# Altium footprint library Ctrl_FOC1.PcbLib: 35 footprints (part 2 of 3)
Each footprint in its own frame and in the unit in brackets; x right, y up, seen from the top. Pads: shape width x height; smd on the part's side, far side on the other; paste and mask are expansions set on the pad; w line width, h text height; cw(c..) or ccw(c..) is an arc to the next point about the centre after c.
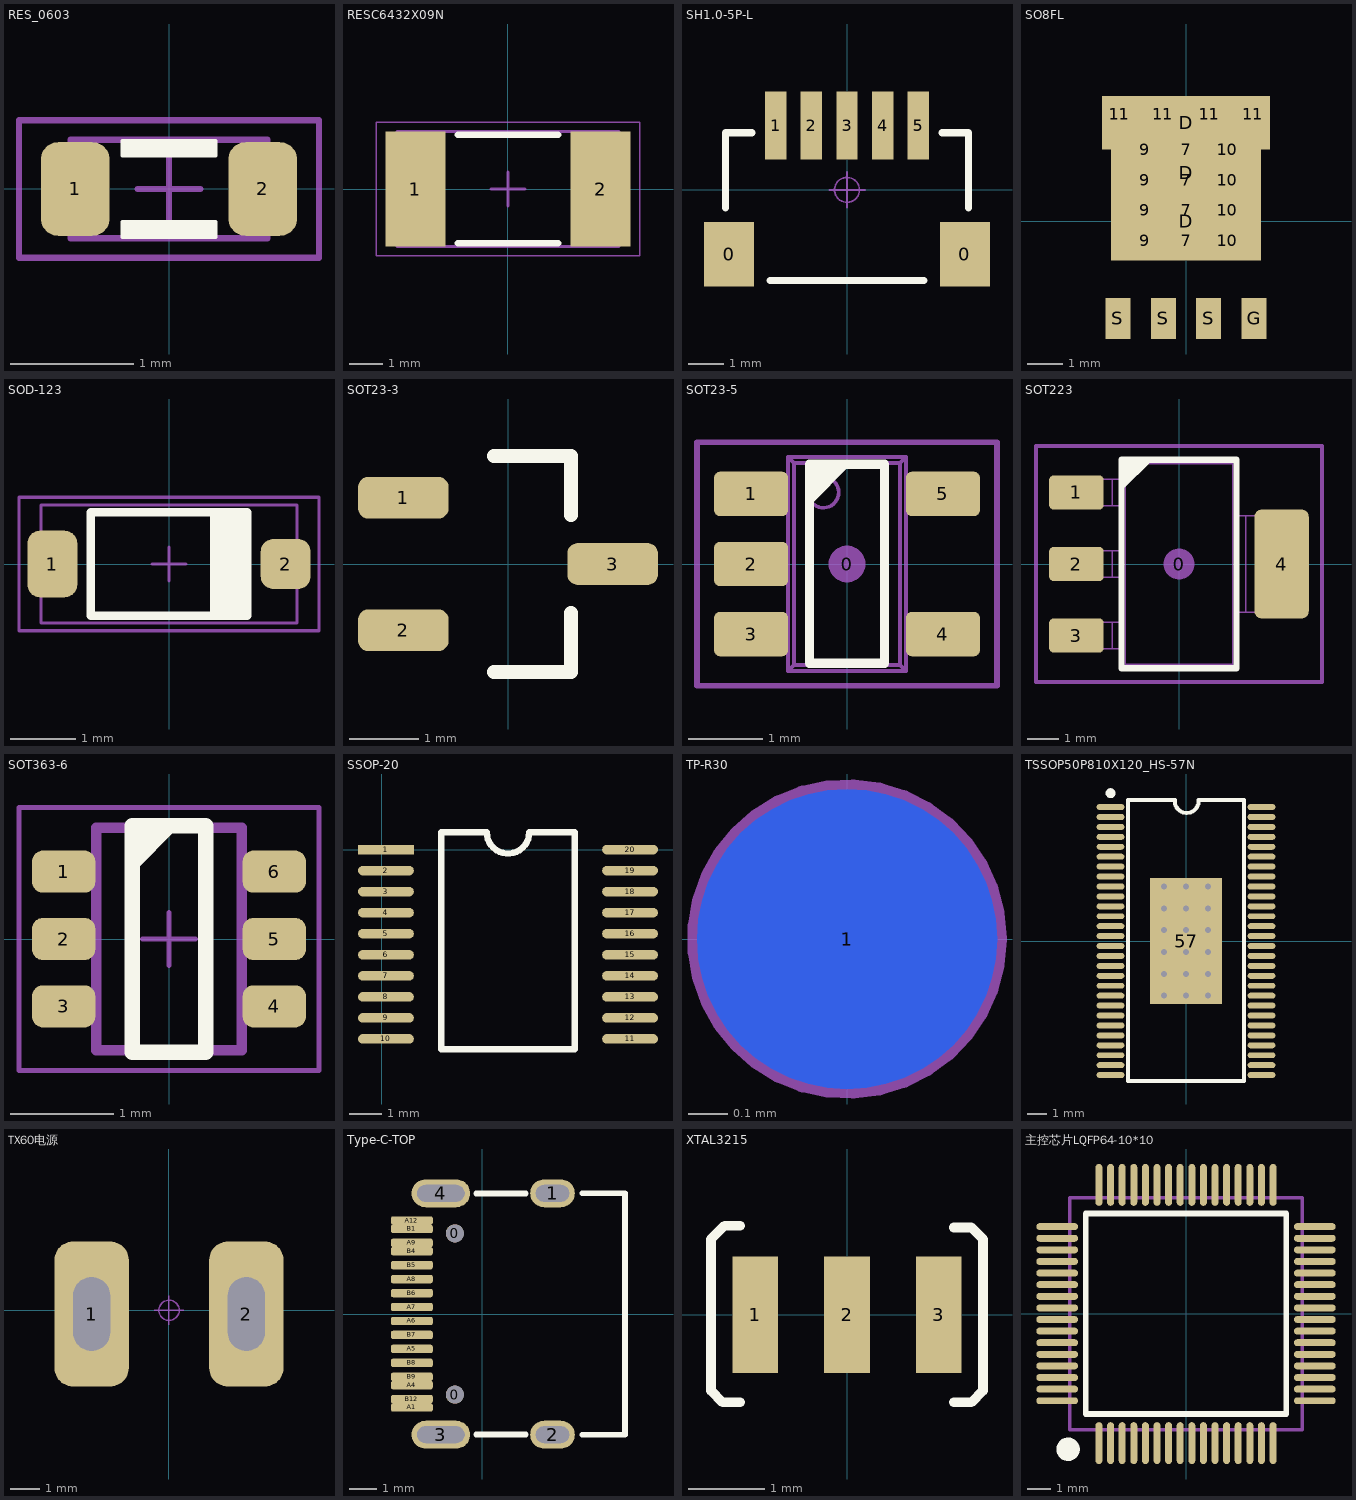
[diagram p1: the footprints below, top view; thin cyan lines are the x and y axes]

## RES_0603 [mil]
height 31.5
pads (2):
  rrect50% 22x30 smd: 1(-30,0) 2(30,0)
Top Overlay:
  region: -14.74,15.42 -14.74,10.42 15.26,10.42 15.26,15.42
  region: 15,-15.5 15,-10.5 -15,-10.5 -15,-15.5
  lines w1: -15,-15.5 -15,-10.5 15,-10.5 15,-15.5 -15,-15.5 ; -15,10.5 15,10.5 15,15.5 -15,15.5 -15,10.5
Mechanical 13:
  lines w2: -10,0 10,0 ; 0,-10 0,10 ; -31.5,-15.75 -31.5,15.75 31.5,15.75 31.5,-15.75 -31.5,-15.75
Mechanical 14:
  lines w2: -48,-22 -48,22 48,22 48,-22 -48,-22
3D body "RES0603.STEP": height 17.72, standoff 0, extent -31.49,-16.13 31.5,16.15

## RESC6432X09N [mm] "Chip Resistor, 2-Leads, Body 6.40x3.20mm, IPC Medium Density"
height 0.9
pads (2):
  rect 1.8x3.45 smd: 1(-2.775,0) 2(2.775,0)
Top Overlay:
  lines w0.2: -1.5,-1.625 1.5,-1.625 ; -1.5,1.625 1.5,1.625
Mechanical 13:
  lines w0.1: -3.325,-1.725 3.325,-1.725 3.325,1.725 -3.325,1.725 -3.325,-1.725
Mechanical 15:
  lines w0.05: -3.95,-2 -3.95,2 3.95,2 3.95,-2 -3.95,-2
  lines w0.1: -0.5,0 0.5,0 ; 0,-0.5 0,0.5
3D body: height 0.9, standoff 0, extent 2.425,-1.725 3.325,1.725
3D body: height 0.9, standoff 0, extent -2.425,-1.725 2.425,1.725
3D body: height 0.9, standoff 0, extent -3.325,-1.725 -2.425,1.725

## SH1.0-5P-L [mm]
height 0.8
pads (7):
  rect 1.4x1.8 smd: 0(-3.3,-1.8) 0(3.3,-1.8)
  rect 0.6x1.9 smd: 1(-2,1.8) 2(-1,1.8) 3(0,1.8) 4(1,1.8) 5(2,1.8)
Top Overlay:
  lines w0.2: -3.4,-0.508 -3.4,1.6 -2.667,1.6 ; -2.159,-2.54 2.159,-2.54 ; 2.667,1.6 3.3,1.6 3.4,1.6 3.4,1.5 3.4,-0.508
Mechanical 15:
  circle w0.05: c0,0 r0.35
  lines w0.05: -0.5,0 0.5,0 ; 0,-0.5 0,0.5
3D body "SM05B-SRSS-TB.STEP": height 2.96, standoff 0, extent -3.5,-2.794 3.5,2.156

## SO8FL [mm] "DFN5 5x6, 1.27P  (SO-8FL)  CASE 488AA"
height 1
pads (23):
  rect 0.9x0.6 on Top Paste: 7(0,-0.55) 7(0,0.3) 7(0,1.15) 7(0,2) 9(-1.15,-0.55) 9(-1.15,0.3) 9(-1.15,1.15) 9(-1.15,2) 10(1.15,-0.55) 10(1.15,0.3) 10(1.15,1.15) 10(1.15,2)
  rect 0.6x0.9 on Top Paste: 11(-1.875,3) 11(-0.65,3) 11(0.65,3) 11(1.875,3)
  rect 4.2x2.2 smd paste-10 mask+0.075: D(0,0) D(0,1.35)
  rect 4.7x1.5 smd paste-10 mask+0.075: D(0,2.75)
  rect 0.7x1.15 smd paste-0.05 mask+0.075: G(1.905,-2.725) S(-1.905,-2.725) S(-0.635,-2.725) S(0.635,-2.725)
3D body "User Library-DFN5x6_SO8FL.STEP": height 1.13, standoff 0, extent -2.575,-2.95 2.575,3.2

## SOD-123 [mil]
height 45.28
pads (2):
  rrect50% 30x40 smd: 1(-70,0)
  rrect50% 30x30 smd: 2(70,0)
Top Overlay:
  region: 47,31 47,-31 27,-31 27,31
  lines w5: 27,-31 27,31 ; -47,-31 -47,31 47,31 47,-31 -47,-31
Mechanical 13:
  lines w2: -10.01,0 9.99,0 ; -0.01,-10 -0.01,10 ; -76.78,-35.43 -76.78,35.43 76.77,35.43 76.77,-35.43 -76.78,-35.43
Mechanical 14:
  lines w2: -90,-40 -90,40 90,40 90,-40 -90,-40
3D body "User Library-SOD123-1.STEP": height 46.46, standoff 0, extent -76.78,-35.43 76.77,35.43

## SOT23-3 [mm] "SOT23, 3-Leads, Body 3.1x3.0mm (max), Pitch 0.95mm, IPC Medium Density"
height 1.2
pads (3):
  rrect50% 1.3x0.6 smd: 1(-1.5,0.95) 2(-1.5,-0.95) 3(1.5,0)
Top Overlay:
  lines w0.2: -0.2,-1.55 0.9,-1.55 0.9,-0.7 ; -0.2,1.55 0.9,1.55 0.9,0.7
3D body "SOT-23-3.stp": height 1.2, standoff 0, extent -1.298,-1.45 1.502,1.45

## SOT23-5 [mm]
height 1.6
pads (6):
  round 0.5 on Mech15: 0(0,0)
  rrect25% 1x0.6 smd: 1(-1.3,0.95) 2(-1.3,0) 3(-1.3,-0.95) 4(1.3,-0.95) 5(1.3,0.95)
Top Overlay:
  region: -0.508,1.353 0.053,1.353 -0.508,0.792
  lines w0.127: -0.508,-1.347 -0.508,1.353 0.508,1.353 0.508,-1.347 -0.508,-1.347
  text "." at -2.275,0.95 h0.1
Mechanical 13:
  circle w0.05: c-0.32,0.97 r0.208
  lines w0.05: -1.191,-1.15 -1.191,-0.75 ; -1.191,-0.2 -1.191,0.2 ; -1.191,0.75 -1.191,1.15 ; -1.1,-1.15 -1.1,-0.75 ; -1.1,-0.2 -1.1,0.2 ; -1.1,0.75 -1.1,1.15 ; -1.094,-1.15 -1.094,-0.75 ; -1.094,-0.2 -1.094,0.2 ; -1.094,0.75 -1.094,1.15 ; -0.844,-1.15 -0.844,-0.75 ; -0.844,-0.2 -0.844,0.2 ; -0.844,0.75 -0.844,1.15 ; -0.8,-1.15 -1.4,-1.15 -1.4,-0.75 -0.8,-0.75 ; -0.8,-0.2 -1.4,-0.2 -1.4,0.2 -0.8,0.2 ; -0.8,0.75 -1.4,0.75 -1.4,1.15 -0.8,1.15 ; 0.8,-1.15 1.4,-1.15 1.4,-0.75 0.8,-0.75 ; 0.8,0.75 1.4,0.75 1.4,1.15 0.8,1.15 ; 0.844,-1.15 0.844,-0.75 ; 0.844,0.75 0.844,1.15 ; 1.094,-1.15 1.094,-0.75 ; 1.094,0.75 1.094,1.15 ; 1.1,-1.15 1.1,-0.75 ; 1.1,0.75 1.1,1.15 ; 1.191,-1.15 1.191,-0.75 ; 1.191,0.75 1.191,1.15 ; -0.8,-1.45 -0.8,1.45 ; -0.8,-1.45 -0.719,-1.369 ; -0.8,-1.45 0.8,-1.45 ; -0.8,1.45 -0.719,1.369 ; -0.8,1.45 0.8,1.45 ; -0.719,-1.369 0.719,-1.369 ; -0.719,-1.369 -0.719,1.369 ; -0.719,1.369 0.719,1.369 ; 0.719,-1.369 0.8,-1.45 ; 0.719,-1.369 0.719,1.369 ; 0.719,1.369 0.8,1.45 ; 0.8,-1.45 0.8,1.45
Mechanical 15:
  lines w0.076: -2.032,-1.651 -2.032,1.651 2.032,1.651 2.032,-1.651 -2.032,-1.651
3D body "SOT23-5.STEP": height 1.44, standoff -0.01, extent -1.4,-1.45 1.4,1.45

## SOT223 [mm] "SOT223 /SC-73"
height 1.524
pads (5):
  round 1 on Mech15: 0(0,0)
  rrect25% 1.75x1.1 smd: 1(-3.3,2.3) 2(-3.3,0) 3(-3.3,-2.3)
  rrect25% 1.75x3.5 smd: 4(3.3,0)
Top Overlay:
  region: -1.85,3.35 -0.85,3.35 -1.85,2.35
  lines w0.2: -1.85,-3.35 -1.85,3.35 1.85,3.35 1.85,-3.35 -1.85,-3.35
Mechanical 13:
  lines w0.05: -3.186,-2.72 -3.186,-1.88 ; -3.186,-0.42 -3.186,0.42 ; -3.186,1.88 -3.186,2.72 ; -3.062,-2.72 -3.062,-1.88 ; -3.062,-0.42 -3.062,0.42 ; -3.062,1.88 -3.062,2.72 ; -2.506,-2.72 -2.506,-1.88 ; -2.506,-0.42 -2.506,0.42 ; -2.506,1.88 -2.506,2.72 ; -2.152,-2.72 -2.152,-1.88 ; -2.152,-0.42 -2.152,0.42 ; -2.152,1.88 -2.152,2.72 ; -1.85,-2.72 -1.85,-3.35 ; -1.85,-1.88 -1.85,-0.42 ; -1.85,0.42 -1.85,1.88 ; -1.85,2.72 -1.85,3.35 ; 1.85,-1.55 1.85,-3.35 ; 1.85,1.55 1.85,3.35 ; 2.152,-1.55 2.152,1.55 ; 2.506,-1.55 2.506,1.55 ; 3.062,-1.55 3.062,1.55 ; 3.186,-1.55 3.186,1.55 ; -1.85,-3.35 -1.731,-3.231 ; -1.85,-3.35 1.85,-3.35 ; -1.85,3.35 -1.731,3.231 ; -1.85,3.35 1.85,3.35 ; -1.731,-3.231 1.731,-3.231 ; -1.731,-3.231 -1.731,3.231 ; -1.731,3.231 1.731,3.231 ; 1.731,-3.231 1.85,-3.35 ; 1.731,-3.231 1.731,3.231 ; 1.731,3.231 1.85,3.35 ; -3.65,-2.72 -3.65,-1.88 -1.829,-1.88 -1.829,-2.72 -3.65,-2.72 ; -3.65,-0.42 -3.65,0.42 -1.829,0.42 -1.829,-0.42 -3.65,-0.42 ; -3.65,1.88 -3.65,2.72 -1.829,2.72 -1.829,1.88 -3.65,1.88 ; 1.829,-1.55 3.65,-1.55 3.65,1.55 1.829,1.55 1.829,-1.55
Mechanical 15:
  lines w0.127: -4.6,-3.8 -4.6,3.8 4.6,3.8 4.6,-3.8 -4.6,-3.8
3D body "SOT223-4.STEP": height 1.8, standoff 0, extent -3.65,-3.35 3.65,3.35

## SOT363-6 [mil]
height 43.31
pads (6):
  rrect50% 24x16 smd: 1(-40,25.59) 2(-40,0) 3(-40,-25.59) 4(40,-25.59) 5(40,0) 6(40,25.59)
Top Overlay:
  region: -14,43 0,43 -14,29
  lines w6: -14,29 0,43 ; -14,-43 -14,43 14,43 14,-43 -14,-43
Mechanical 13:
  lines w2: -10,0 10,0 ; 0,-10 0,10
  lines w4: -27.56,-42.32 -27.56,42.32 27.56,42.32 27.56,-42.32 -27.56,-42.32
Mechanical 14:
  lines w2: -57,-50 -57,50 57,50 57,-50 -57,-50
3D body "SW3dPS-SC70-6.STEP": height 36.73, standoff -0.67, extent -41.33,-39.37 41.34,39.37

## SSOP-20 [mm]
height 0.8
pads (20):
  rect 1.727x0.3 smd: 1(0.127,0)
  oval 1.727x0.3 smd: 2(0.127,-0.65) 3(0.127,-1.3) 4(0.127,-1.95) 5(0.127,-2.6) 6(0.127,-3.25) 7(0.127,-3.9) 8(0.127,-4.55) 9(0.127,-5.2) 10(0.127,-5.85) 11(7.673,-5.85) 12(7.673,-5.2) 13(7.673,-4.55) 14(7.673,-3.9) 15(7.673,-3.25) 16(7.673,-2.6) 17(7.673,-1.95) 18(7.673,-1.3) 19(7.673,-0.65) 20(7.673,0)
Top Overlay:
  lines w0.2: 1.835,-6.175 5.965,-6.175 5.965,0.533 4.555,0.533 cw(c3.9,0.533) 3.245,0.533 1.835,0.533 1.835,-6.175
3D body "SSOP-20.STEP": height 1.79, standoff -0.05, extent -0.013,-6.52 7.887,0.78

## TP-R30 [mil]
height 31.5
pads (1):
  round 30 smd far side paste-30 mask+3: 1(0,0)
Mechanical 13:
  circle w1.97: c0,0 r15
3D body: height 10, standoff 0, extent -17.86,-17.96 18,17.97

## TSSOP50P810X120_HS-57N [mm] "TSSOP, 56-Leads, Body 14.00x6.10mm, Pitch 0.50mm, Thermal Pad 6.35x3.61mm, IPC Medium Density"
height 1.2
pads (57):
  oval 1.4x0.3 smd: 1(-3.8,6.75) 2(-3.8,6.25) 3(-3.8,5.75) 4(-3.8,5.25) 5(-3.8,4.75) 6(-3.8,4.25) 7(-3.8,3.75) 8(-3.8,3.25) 9(-3.8,2.75) 10(-3.8,2.25) 11(-3.8,1.75) 12(-3.8,1.25) 13(-3.8,0.75) 14(-3.8,0.25) 15(-3.8,-0.25) 16(-3.8,-0.75) 17(-3.8,-1.25) 18(-3.8,-1.75) 19(-3.8,-2.25) 20(-3.8,-2.75) 21(-3.8,-3.25) 22(-3.8,-3.75) 23(-3.8,-4.25) 24(-3.8,-4.75) 25(-3.8,-5.25) 26(-3.8,-5.75) 27(-3.8,-6.25) 28(-3.8,-6.75) 29(3.8,-6.75) 30(3.8,-6.25) 31(3.8,-5.75) 32(3.8,-5.25) 33(3.8,-4.75) 34(3.8,-4.25) 35(3.8,-3.75) 36(3.8,-3.25) 37(3.8,-2.75) 38(3.8,-2.25) 39(3.8,-1.75) 40(3.8,-1.25) 41(3.8,-0.75) 42(3.8,-0.25) 43(3.8,0.25) 44(3.8,0.75) 45(3.8,1.25) 46(3.8,1.75) 47(3.8,2.25) 48(3.8,2.75) 49(3.8,3.25) 50(3.8,3.75) 51(3.8,4.25) 52(3.8,4.75) 53(3.8,5.25) 54(3.8,5.75) 55(3.8,6.25) 56(3.8,6.75)
  rect 3.61x6.35 smd: 57(0,0)
via -1.1,-1.65 diameter 0.7 hole 0.3
via -1.1,-2.75 diameter 0.7 hole 0.3
via -1.1,-0.55 diameter 0.7 hole 0.3
via 1.1,-2.75 diameter 0.7 hole 0.3
via 0,-2.75 diameter 0.7 hole 0.3
via 1.1,-1.65 diameter 0.7 hole 0.3
via 0,-1.65 diameter 0.7 hole 0.3
via 1.1,-0.55 diameter 0.7 hole 0.3
via 0,-0.55 diameter 0.7 hole 0.3
via 1.1,0.55 diameter 0.7 hole 0.3
via 0,0.55 diameter 0.7 hole 0.3
via -1.1,0.55 diameter 0.7 hole 0.3
via 1.1,1.65 diameter 0.7 hole 0.3
via 0,1.65 diameter 0.7 hole 0.3
via -1.1,1.65 diameter 0.7 hole 0.3
via 1.1,2.75 diameter 0.7 hole 0.3
via 0,2.75 diameter 0.7 hole 0.3
via -1.1,2.75 diameter 0.7 hole 0.3
Top Overlay:
  circle w0.25: c-3.8,7.45 r0.125
  lines w0.2: -2.921,-7.05 -2.921,7.112 -0.565,7.112 ccw(c0.035,7.057) 0.635,7.112 2.921,7.112 2.921,-7.05 -2.921,-7.05
Mechanical 15:
  lines w0.1: -0.5,0 0.5,0 ; 0,-0.5 0,0.5
3D body: height 1.2, standoff 0.05, extent -3.1,-7.05 3.1,7.05

## TX60电源 [mil] "长：18.8mm， 宽：16mm，高：8.6mm"
height 31.5
pads (2):
  rrect50% 100.85x196.85 hole 100 slot 50 at 0 deg: 1(-105,-5) 2(105,-5)
Mechanical 15:
  circle w1.97: c0,0 r13.78
  lines w1.97: -19.68,0 19.68,0 ; 0,-19.68 0,19.68

## Type-C-TOP [mm]
height 0.8
pads (22):
  round 0.65 hole 0.65: 0(-0.98,-2.89) 0(-0.98,2.89)
  oval 1.6x1 hole 0.6 slot 1.2 at 0 deg: 1(2.52,4.325) 2(2.52,-4.325)
  oval 2.1x1 hole 0.6 slot 1.7 at 0 deg: 3(-1.48,-4.325) 4(-1.48,4.325)
  rrect50% 1.5x0.3 smd: A1(-2.52,-3.35) A4(-2.52,-2.55) A5(-2.52,-1.25) A6(-2.52,-0.25) A7(-2.52,0.25) A8(-2.52,1.25) A9(-2.52,2.55) A12(-2.52,3.35) B1(-2.52,3.05) B4(-2.52,2.25) B5(-2.52,1.75) B6(-2.52,0.75) B7(-2.52,-0.75) B8(-2.52,-1.75) B9(-2.52,-2.25) B12(-2.52,-3.05)
Top Overlay:
  lines w0.203: -0.218,-4.318 1.56,-4.318 ; -0.218,4.318 1.56,4.318 ; 3.592,-4.325 5.12,-4.325 5.12,4.325 3.592,4.325
3D body "User Library-1054500101.STEP": height 3.28, standoff -0.68, extent -2.645,-4.475 5.255,4.465

## XTAL3215 [mm]
height 0.8
pads (3):
  rect 0.6x1.524 smd: 1(-1.2,0) 2(0,0) 3(1.2,0)
Top Overlay:
  lines w0.127: -1.397,-1.143 -1.626,-1.143 -1.778,-0.991 -1.778,0.991 -1.6,1.168 -1.397,1.168 ; 1.397,-1.143 1.626,-1.143 1.778,-0.991 1.778,0.991 1.626,1.143 1.397,1.143

## 主控芯片LQFP64-10*10 [mm] "10x10mm，0.5mm       淘宝ID:黄晶宝石"
height 1.6
pads (64):
  oval 0.3x1.8 smd: 1(-3.75,-5.575) 2(-3.25,-5.575) 3(-2.75,-5.575) 4(-2.25,-5.575) 5(-1.75,-5.575) 6(-1.25,-5.575) 7(-0.75,-5.575) 8(-0.25,-5.575) 9(0.25,-5.575) 10(0.75,-5.575) 11(1.25,-5.575) 12(1.75,-5.575) 13(2.25,-5.575) 14(2.75,-5.575) 15(3.25,-5.575) 16(3.75,-5.575) 33(3.75,5.55) 34(3.25,5.55) 35(2.75,5.55) 36(2.25,5.55) 37(1.75,5.55) 38(1.25,5.55) 39(0.75,5.55) 40(0.25,5.55) 41(-0.25,5.55) 42(-0.75,5.55) 43(-1.25,5.55) 44(-1.75,5.55) 45(-2.25,5.55) 46(-2.75,5.55) 47(-3.25,5.55) 48(-3.75,5.55)
  oval 1.8x0.3 smd: 17(5.55,-3.75) 18(5.55,-3.25) 19(5.55,-2.75) 20(5.55,-2.25) 21(5.55,-1.75) 22(5.55,-1.25) 23(5.55,-0.75) 24(5.55,-0.25) 25(5.55,0.25) 26(5.55,0.75) 27(5.55,1.25) 28(5.55,1.75) 29(5.55,2.25) 30(5.55,2.75) 31(5.55,3.25) 32(5.55,3.75) 49(-5.55,3.75) 50(-5.55,3.25) 51(-5.55,2.75) 52(-5.55,2.25) 53(-5.55,1.75) 54(-5.55,1.25) 55(-5.55,0.75) 56(-5.55,0.25) 57(-5.55,-0.25) 58(-5.55,-0.75) 59(-5.55,-1.25) 60(-5.55,-1.75) 61(-5.55,-2.25) 62(-5.55,-2.75) 63(-5.55,-3.25) 64(-5.55,-3.75)
Top Overlay:
  circle w0.508: c-5.08,-5.842 r0.25
  lines w0.254: -4.318,-4.318 -4.318,4.318 4.318,4.318 4.318,-4.318 -4.318,-4.318
Mechanical 13:
  lines w0.15: -5,-5 -5,5 5,5 5,-5 -5,-5
3D body "LQFP64-10x10.STEP": height 1.45, standoff 0, extent -6.003,-6.003 6.003,6.003